# Altium schematic symbol library LM1117IMPX.Schlib: 1 symbol
Pins are listed as number, name and electrical type; pins without a type are passive.

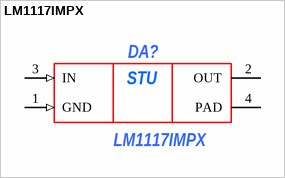
[diagram p0: symbol LM1117IMPX]

## LM1117IMPX
designator DA?
ManufacturerPartNumber: LM1117IMPX-5.0/NOPB; ComponentLink1Description: *; ComponentLink1URL: *; ComponentLink2Description: *; ComponentLink2URL: *; Power/Voltage: *; Rem: *; TKE: *; Tolerance: *; TU/GOST: *; Value: *; Корпус: *; Примечание: *; Manufacturer: *; Author: *; Type: *
pins: 1 GND (in), 2 OUT (power), 3 IN (in), 4 PAD (power)
text: STU